# EAGLE library part CB_3PH (library CASARIAE)
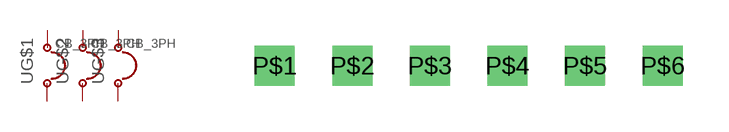
[diagram p5: symbol with the pads of CB6; footprint CB6]

Designator prefix -; gates G$1=BREAKER G$2=BREAKER G$3=BREAKER

## CB_3PH  [CB6]
P$1  G$1:1  pas
P$2  G$1:2  pas
P$3  G$2:1  pas
P$4  G$2:2  pas
P$5  G$3:1  pas
P$6  G$3:2  pas

## Footprint CB6 (pad centres in mm)
drill 0.8 square: P$1 -11.43,1.27; P$2 -8.89,1.27; P$3 -6.35,1.27; P$4 -3.81,1.27; P$5 -1.27,1.27; P$6 1.27,1.27